# EAGLE library part LTC3766 (library PowerProducts)
LT-Spice library generated with : ltspice.ulp from: D:/Program Files (x86)/LTC/LTspiceIV/lib/sym/PowerProducts/LTC3770*.asy at 07.10.2012 18:32:58
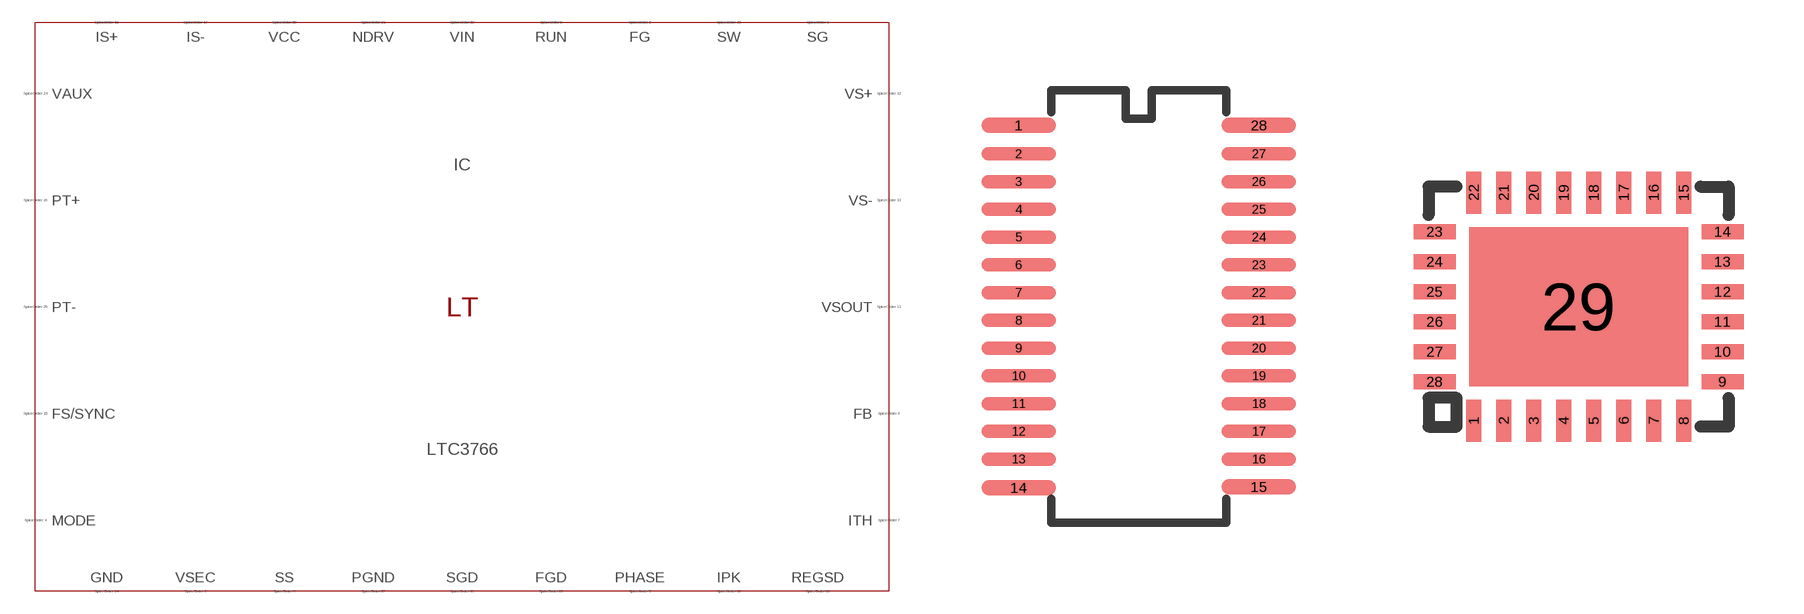
[diagram p316: symbol with the pads of SSOP28(GN); footprints SSOP28(GN), QFN28(UFD)]

Designator prefix IC

## LTC3766 (SPICEMODEL: LTC3766.sub; SPICEPREFIX: X; VALUE2: LTC3766)  [SSOP28(GN)]
1  SG  pas
2  FG  pas
3  VSEC  pas
4  MODE  pas
5  PHASE  pas
6  FB  pas
7  ITH  pas
8  RUN  pas
9  SS  pas
10  IPK  pas
11  VSOUT  pas
12  VS+  pas
13  VS-  pas
14  GND  pas
15  FS/SYNC  pas
16  REGSD  pas
17  IS-  pas
18  IS+  pas
19  SGD  pas
20  FGD  pas
21  NDRV  pas
22  VIN  pas
23  SW  pas
24  VAUX  pas
25  PT-  pas
26  PT+  pas
27  PGND  pas
28  VCC  pas

## LTC3766UFD (SPICEMODEL: LTC3766.sub; SPICEPREFIX: X; VALUE2: LTC3766)  [QFN28(UFD)]
1  MODE  pas
2  PHASE  pas
3  FB  pas
4  ITH  pas
5  RUN  pas
6  SS  pas
7  IPK  pas
8  VSOUT  pas
9  VS+  pas
10  VS-  pas
11  GND  pas
12  FS/SYNC  pas
13  REGSD  pas
14  IS-  pas
15  IS+  pas
16  SGD  pas
17  FGD  pas
18  NDRV  pas
19  VIN  pas
20  SW  pas
21  VAUX  pas
22  PT-  pas
23  PT+  pas
24  PGND  pas
25  VCC  pas
26  SG  pas
27  FG  pas
28  VSEC  pas
29  GND  pas

## Footprint SSOP28(GN) (pad centres in mm)
Package generated from: SSOP28(GN).asc (!PADS-POWERPCB-V5.0-BASIC! DESIGN DATABASE ASCII FILE 1.0) with :import-pads-powerpcb-v5.ulp Version 1.0.1 at 04.10.2012 14:11:39
smd 2.55 x 0.525: 1 -4.123,6.221; 14 -4.123,-6.221; 15 4.123,-6.191; 28 4.123,6.221
smd 2.55 x 0.458: 2 -4.123,5.239; 3 -4.123,4.286; 4 -4.123,3.334; 5 -4.123,2.381; 6 -4.123,1.429; 7 -4.123,0.476; 8 -4.123,-0.476; 9 -4.123,-1.429; 10 -4.123,-2.381; 11 -4.123,-3.334; 12 -4.123,-4.286; 13 -4.123,-5.239; 16 4.123,-5.239; 17 4.123,-4.286; 18 4.123,-3.334; 19 4.123,-2.381; 20 4.123,-1.429; 21 4.123,-0.476; 22 4.123,0.476; 23 4.123,1.429; 24 4.123,2.381; 25 4.123,3.334; 26 4.123,4.286; 27 4.123,5.239

## Footprint QFN28(UFD) (pad centres in mm)
Package generated from: QFN28(UFD).asc (!PADS-POWERPCB-V5.0-BASIC! DESIGN DATABASE ASCII FILE 1.0) with :import-pads-powerpcb-v5.ulp Version 1.0.1 at 04.10.2012 14:11:25
smd 0.375 x 1.05: 1 -2.625,-2.85; 2 -1.875,-2.85; 3 -1.125,-2.85; 4 -0.375,-2.85; 5 0.375,-2.85; 6 1.125,-2.85; 7 1.875,-2.85; 8 2.625,-2.85; 15 2.625,2.85; 16 1.875,2.85; 17 1.125,2.85; 18 0.375,2.85; 19 -0.375,2.85; 20 -1.125,2.85; 21 -1.875,2.85; 22 -2.625,2.85
smd 1.05 x 0.375: 9 3.6,-1.875; 10 3.6,-1.125; 11 3.6,-0.375; 12 3.6,0.375; 13 3.6,1.125; 14 3.6,1.875; 23 -3.6,1.875; 24 -3.6,1.125; 25 -3.6,0.375; 26 -3.6,-0.375; 27 -3.6,-1.125; 28 -3.6,-1.875
smd 5.475 x 3.975: 29 0,0